# Altium schematic symbol library Devise.SchLib: 72 symbols
Pins are listed as number, name and electrical type; pins without a type are passive.

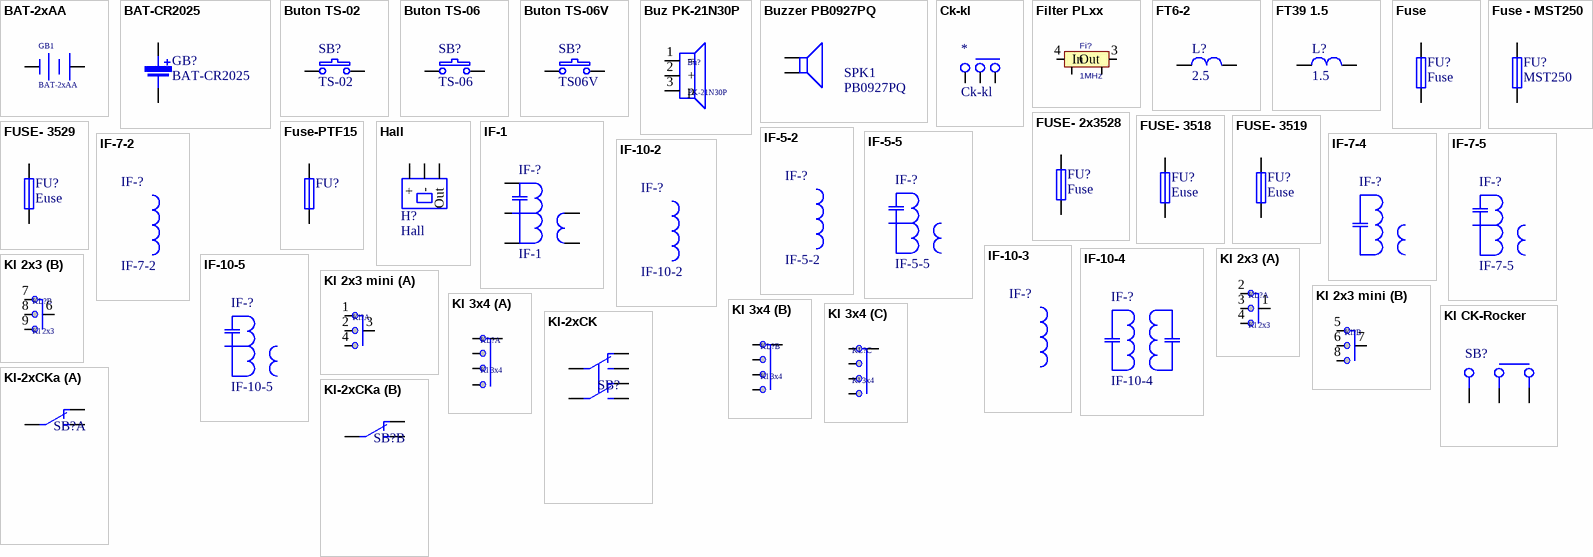
[diagram p0: symbols BAT-2xAA to Kl-2xCKa]

## BAT-2xAA
designator GB1
Price: 1
footprint Bat-2xAA
pins: 1 +, 2 -

## BAT-CR2025
designator GB?
Price: 1
footprint BAT-CR2025 (Footprint not found)
pins: 1, 2

## Buton TS-02
designator SB?, comment TS-02
Price: 0.1
footprint TS-02 (Footprint not found)
pins: 1, 2

## Buton TS-06
designator SB?, comment TS-06
Price: 0.15
footprint TS-06
pins: 1, 2

## Buton TS-06V
designator SB?, comment TS06V
Price: 0.1
footprint TS-06V
pins: 1, 2

## Buz PK-21N30P
designator Bu?, comment PK-21N30P
Price: 1.7
footprint Buzzer PK-21N30P
pins: 1 =, 2 +, 3 p

## Buzzer PB0927PQ
designator SPK1, comment PB0927PQ
9x4mm; Published: 24-Mar-1999; LatestRevisionDate: 17-Jul-2002; LatestRevisionNote: Re-released for DXP Platform.; PackageReference: PIN2; Publisher: Altium Limited
footprint Buzzer 9mm/4 (Buzzer 9mm/4 PB0927PQ)
pins: 1, 2

## Ck-kl
designator *
Price: *
footprint Ck-kl (Footprint not found)
pins: 1, 2, 3

## Filter PLxx
designator Fi?, comment 1MHz
Value: 1MHz
footprint Filter PLxx
pins: 1 G, 2 G, 3 Out, 4 In

## FT6-2
designator L?, comment 2.5
Price: 0.12
footprint FT6-2
pins: 1, 2

## FT39 1.5
designator L?, comment 1.5
Price: 0.12
footprint FT39 1.5
pins: 1, 2

## Fuse
designator FU?
Price: 0.3
footprint Fuse
pins: 1, 2

## Fuse - MST250
designator FU?, comment MST250
Price: 0.51
footprint Fuse - MST 250
pins: 1, 2

## FUSE- 2x3528
designator FU?, comment Fuse
Auto; TargetPrice: 0.47
footprint FUSE- 2x3528
pins: 1, 2

## FUSE- 3518
designator FU?, comment Euse
5mm 15A; Price: 1
footprint FUSE- 3518
pins: 1, 2

## FUSE- 3519
designator FU?, comment Euse
5mm 10A; Price: 1
footprint FUSE- 3519 (Footprint not found)
pins: 1, 2

## FUSE- 3529
designator FU?, comment Euse
6.3mm 15A; Price: 1
footprint FUSE- 3529 (Footprint not found)
pins: 1, 2

## Fuse-PTF15
designator FU?
5mm 6.3A; Price: 1
footprint FUSE-MCH
pins: 1, 2

## Hall
designator H?
Price: 0.82
footprint ZTX
pins: 1 + (power), 2 - (power), 3 Out

## IF-1
designator IF-?
Price: 0.45
footprint IF-5 (Footprint not found)
footprint IF-7
footprint IF-10
pins: 1, 2, 3, 4, 5, 6 G hidden to G, 7 G hidden to G

## IF-5-2
designator IF-?
Price: 0.45
footprint IF-5
pins: 1, 3, 6 G hidden to G, 7 G hidden to G

## IF-5-5
designator IF-?
Price: 0.45
footprint IF-5
pins: 1, 2, 3, 4, 5, 6 G hidden to G, 7 G hidden to G
1 alternate drawing of the same symbol

## IF-7-2
designator IF-?
Price: 0.35
footprint IF-7
pins: 4, 5, 6 G hidden to G, 7 G hidden to G

## IF-7-4
designator IF-?
Price: 0.35
footprint IF-7
pins: 1, 2 hidden, 3, 4, 5, 6 G hidden to G, 7 G hidden to G
1 alternate drawing of the same symbol

## IF-7-5
designator IF-?
Price: 0.35
footprint IF-7
pins: 1, 2, 3, 4, 5, 6 G hidden to G, 7 G hidden to G
1 alternate drawing of the same symbol

## IF-10-2
designator IF-?
Price: 0.35
footprint IF-10
pins: 1, 3, 6 G hidden to G, 7 G hidden to G

## IF-10-3
designator IF-?
Price: 0.35
footprint IF-10
pins: 1, 2 0, 3, 6 G hidden to G, 7 G hidden to G

## IF-10-4
designator IF-?
Price: 0.35
footprint IF-10
pins: 1, 3, 4, 5, 6 G hidden to G, 7 G hidden to G
1 alternate drawing of the same symbol

## IF-10-5
designator IF-?
Price: 0.35
footprint IF-10
pins: 1, 2, 3, 4, 5, 6 G hidden to G, 7 G hidden to G
1 alternate drawing of the same symbol

## Kl 2x3
designator KL?
Price: *
footprint Kl-2x3
part A pins: 0 hidden to g, 1, 2, 3, 4, 5
part B pins: 6, 7, 8, 9, 10

## Kl 2x3 mini
designator Kl?
Price: *
footprint Kl-2x3 mini
part A pins: 0 hidden to g, 1, 2, 3, 4
part B pins: 5, 6, 7, 8
1 alternate drawing of the same symbol

## Kl 3x4
designator KL?
Price: *
footprint Kl-2x3
part A pins: 0 hidden to g, 1, 2, 3, 4, 5
part B pins: 6, 7, 8, 9, 10
part C pins: 6, 7, 8, 9, 10

## Kl CK-Rocker
designator SB?
Price: *
footprint Switch CK-Rocker (Footprint not found)
pins: 1, 2, 3

## Kl-2xCK
designator SB?
Kl-2xCK; Price: 0.6
footprint Kl-2xCK
pins: 1, 2, 3, 4, 5, 6
2 alternate drawings of the same symbol

## Kl-2xCKa
designator SB?
Kl-2xCK; Price: 0.6
footprint Kl-2xCK
part A pins: 1, 2, 3
part B pins: 4, 5, 6
2 alternate drawings of the same symbol

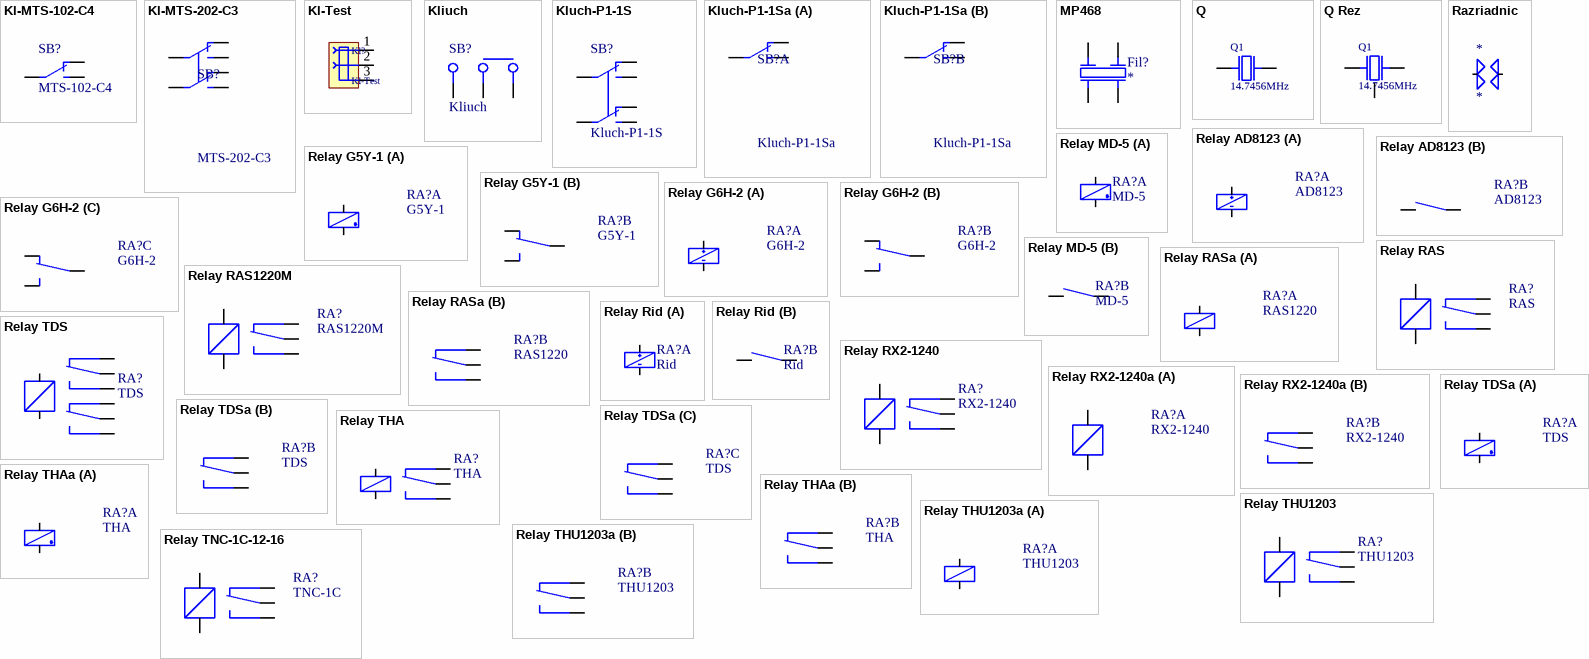
[diagram p1: symbols Kl-MTS-102-C4 to Relay TNC-1C-12-16]

## Kl-MTS-102-C4
designator SB?, comment MTS-102-C4
Price: 0.7
footprint Kl-MTS-102-C4 (Footprint not found)
pins: 0 g (power) hidden to g, 1, 2, 3
2 alternate drawings of the same symbol

## Kl-MTS-202-C3
designator SB?, comment MTS-202-C3
Kl-MTS-202-C3; Price: 0.6
footprint Kl-MTS-202-C3
pins: 0 g (power) hidden to g, 1, 2, 3, 4, 5, 6
2 alternate drawings of the same symbol

## Kl-Test
designator Kl?
Price: *
footprint Kl-Test (Footprint not found)
pins: 1, 2, 3

## Kliuch
designator SB?
Price: *
footprint Kl-Liubo
pins: 1, 2, 3

## Kluch-P1-1S
designator SB?
2 Це-Ка; Price: 0.6
footprint P1
pins: 1, 2, 3, 4, 5, 6
2 alternate drawings of the same symbol

## Kluch-P1-1Sa
designator SB?
2 Це-Ка; Price: 0.6
footprint P1
part A pins: 1, 2, 3
part B pins: 4, 5, 6
2 alternate drawings of the same symbol

## MP468
designator Fil?
Price: 0.5
footprint MP468
pins: 1, 2, 3, 4

## Q
designator Q1, comment 14.7456MHz
Typ: Qvarz 14.7456 HC49S; Price: 0.45
footprint HC49S
footprint HC49U
footprint HC49U-r
pins: 1, 2
1 alternate drawing of the same symbol

## Q Rez
designator Q1, comment 14.7456MHz
Typ: Qvarz 14.7456 HC49S; Price: 0.45
footprint MURA-CSTCE V-3 V (Footprint not found)
pins: 1, 2 G, 3
1 alternate drawing of the same symbol

## Razriadnic
designator *  (mechanical)
Price: 3
footprint Razriadnic
pins: 1, 2

## Relay AD8123
designator RA?, comment AD8123
Rid Relay; Price: 1.2
footprint Matsushita AD8123
part A pins: 5 a, 6 b
part B pins: 1 N, 4 N

## Relay G5Y-1
designator RA?, comment G5Y-1
30V 0.1A DC 1W (900MHz) 0.17W; Price: 1.2
footprint Rele G5Y-1
part A pins: 8 b, 9 a
part B pins: 1 NC, 2 G (power) hidden to g, 3 G (power) hidden to g, 4 O, 5 G (power) hidden to g, 6 G (power) hidden to g, 7 NO
1 alternate drawing of the same symbol

## Relay G6H-2
designator RA?, comment G6H-2
AC125V 1A 62.5VA /0.14W (10uA 10mV); Price: 1.2
footprint Rele G6H-2
part A pins: 1 a, 10 b
part B pins: 2 NC, 3 O, 4 NO
part C pins: 7 NO, 8 O, 9 NC
1 alternate drawing of the same symbol

## Relay MD-5
designator RA?, comment MD-5
0.15om 20V 0.5A 100V 0.1A (10VA) Umax 200V; Price: 1.06
footprint Rele MD-5
part A pins: 1 a, 2 b
part B pins: 3 N, 4 N

## Relay RAS
designator RA?, comment RAS
AC-120V 15A DC-14V 20A 30V 15A /0.36W; Price: 1.8
footprint Rele RAS
pins: 1 a, 2 b, 3 NC, 4 O, 5 NO

## Relay RAS1220M
designator RA?, comment RAS1220M
AC-120V 15A DC-14V 20A 30V 15A /0.64W; Price: 1.8
footprint Rele RAS
pins: 1 a, 2 b, 3 NC, 4 O, 5 NO

## Relay RASa
designator RA?, comment RAS1220
AC-120V 15A DC-14V 20A 30V 15A /0.36W; Price: 1.8
footprint Rele RAS
part A pins: 1 a, 2 b
part B pins: 3 NC, 4 O, 5 NO
1 alternate drawing of the same symbol

## Relay Rid
designator RA?, comment Rid
0.15om 20V 0.5V 100V 0.1A (10W) Umax 200V; Price: 1
footprint Rele DIL14-4-300
part A pins: 2 +Vc, 6 -Vc
part B pins: 1 n, 7 n, 8 n, 14 n

## Relay RX2-1240
designator RA?, comment RX2-1240
DC14V 40A /1.6W 12V 133mA; Price: 1.85
footprint Rele RX2
pins: 1 a, 2 b, 3 NC, 4 O, 5 NO

## Relay RX2-1240a
designator RA?, comment RX2-1240
DC14V 40A /1.6W 12V 133mA; Price: 1.85
footprint Rele RX2
part A pins: 1 a, 2 b
part B pins: 3 NC, 4 O, 5 NO
1 alternate drawing of the same symbol

## Relay TDS
designator RA?, comment TDS
AC120V 1A DC-24V 2A /0.45W; Price: 1.2лв
footprint Rele TDS (Footprint not found)
pins: 1 a, 2 O, 3 NC, 4 NO, 5 NO, 6 NC, 7 O, 8 b

## Relay TDSa
designator RA?, comment TDS
AC120V 1A DC-24V 2A /0.45W; Price: 1.2
footprint Rele TDS (Footprint not found)
part A pins: 1 a, 8 b
part B pins: 2 O, 3 NC, 4 NO
part C pins: 5 NO, 6 NC, 7 O
1 alternate drawing of the same symbol

## Relay THA
designator RA?, comment THA
AC 125V 0.5A DC 60V 0.3A 30V-1A /0.36W; Price: 1.2
footprint Rele THA
pins: 1 b, 2 a, 3 NC, 4 O, 5 NO

## Relay THAa
designator RA?, comment THA
AC 125V 0.5A DC 60V 0.3A 30V-1A /0.36W; Price: 1.2
footprint Rele THA
part A pins: 1 a, 2 b
part B pins: 3 NC, 4 O, 5 No
1 alternate drawing of the same symbol

## Relay THU1203
designator RA?, comment THU1203
AC 120V 2A DC 60V 24V-3A 30V-1A /0.36W; Price: 0.73
footprint Rele THU
pins: 1 a, 2 b, 3 NC, 4 O, 5 NO

## Relay THU1203a
designator RA?, comment THU1203
AC 120V 2A DC 60V 24V-3A 30V-1A /0.36W; Price: 0.73
footprint Rele THU
part A pins: 1 a, 2 b
part B pins: 3 NC, 4 O, 5 NO
1 alternate drawing of the same symbol

## Relay TNC-1C-12-16
designator RA?, comment TNC-1C
AC-250V 16A 12V/33mA 0.4W; Price: 1.8
footprint Rele TNC-16A
pins: 1 a, 2 b, 3 NC, 4 O, 5 NO

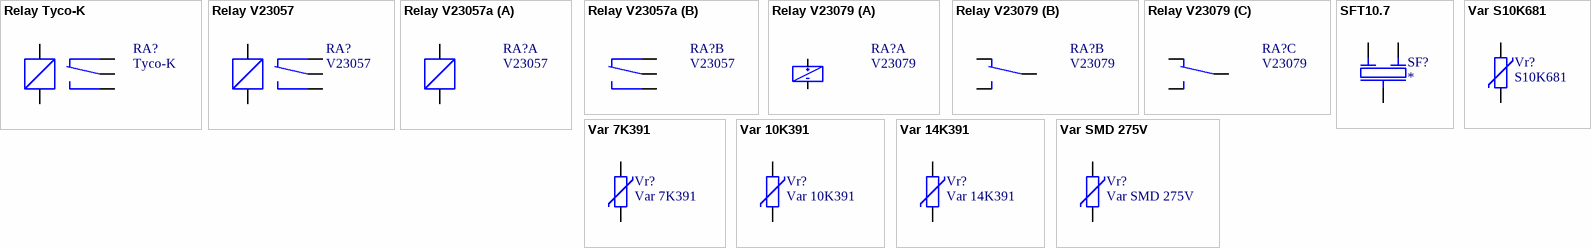
[diagram p2: symbols Relay Tyco-K to Var SMD 275V]

## Relay Tyco-K
designator RA?, comment Tyco-K
Rele Tyco-K; Price: 0.82
footprint Rele Tyco-K
pins: 1 a, 2 b, 3 NC, 4 O, 5 NO

## Relay V23057
designator RA?, comment V23057
AC 250V 5A /6V 4.2min 0.45W; Price: 3.00
footprint Rele V23057
pins: 1 a, 2 b, 3 NC, 4 O, 5 NO

## Relay V23057a
designator RA?, comment V23057
AC 250V 5A /6V 4.2min 0.45W; Price: 3.00
footprint Rele V23057
part A pins: 1 a, 2 b
part B pins: 3 NC, 4 O, 5 NO

## Relay V23079
designator RA?, comment V23079
AC250V 2A 62.5VA /0.14W; Price: 1.2
footprint Rele V23079A
part A pins: 1 a, 12 b
part B pins: 3 NC, 4 O, 5 NO
part C pins: 8 NO, 9 O, 10 NC
1 alternate drawing of the same symbol

## SFT10.7
designator SF?
Филтър 10,7MHz; Price: 0.35
footprint SFE10.7
footprint SFT10.7
pins: 1, 2, 3

## Var 7K391
designator Vr?
Варистор 7mm; Price: 0.1
footprint VAR-7K-200
pins: 1, 2

## Var 10K391
designator Vr?
Варистор 10mm; Price: 0.15
footprint Var-10K-300
pins: 1, 2

## Var 14K391
designator Vr?
Варистор 14mm; Price: 0.2
footprint Var-14K-300
pins: 1, 2

## Var S10K681
designator Vr?, comment S10K681
Варистор 10mm; Price: 0.2
footprint Var-S10K681-300
pins: 1, 2

## Var SMD 275V
designator Vr?
Варистор SMD 1210; Price: 0.5
footprint R1210
pins: 1, 2